# Altium schematic symbol library CSP-USC16-TR.SchLib: 1 symbol
Pins are listed as number, name and electrical type; pins without a type are passive.

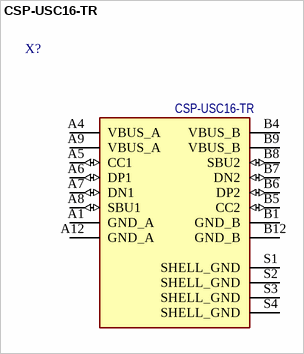
[diagram p0: symbol CSP-USC16-TR]

## CSP-USC16-TR
designator X?
CSP-USC16-TR Valcon USB Type C Surface Mount PCB Socket; Назначение: SMD соединитель USB type C; Потребление, Вт: 0; Package: None; Purchase-URL: https://pricing.snapeda.com/search/part/CSP-USC16-TR/?ref=eda; MP: CSP-USC16-TR; Check_prices: https://www.snapeda.com/parts/CSP-USC16-TR/Valcon/view-part/4783629/?ref=eda; MF: Valcon; Value: *; Availability: No availability data; Price: None; SnapEDA_Link: https://www.snapeda.com/parts/CSP-USC16-TR/Valcon/view-part/4783629/?ref=snap; Наименование: CSP-USC16-TR
footprint VALCON_CSP-USC16-TR
footprint TE_2340901
pins: A1 GND_A (power), A4 VBUS_A (power), A5 CC1 (io), A6 DP1 (io), A7 DN1 (io), A8 SBU1 (io), A9 VBUS_A (power), A12 GND_A (power), B1 GND_B (power), B4 VBUS_B (power), B5 CC2 (io), B6 DP2 (io), B7 DN2 (io), B8 SBU2 (io), B9 VBUS_B (power), B12 GND_B (power), S1 SHELL_GND (power), S2 SHELL_GND (power), S3 SHELL_GND (power), S4 SHELL_GND (power)